# EAGLE library part HEF4538BT (library NXP_By_element14_Batch_1)
Dual precision monostable multivibrator
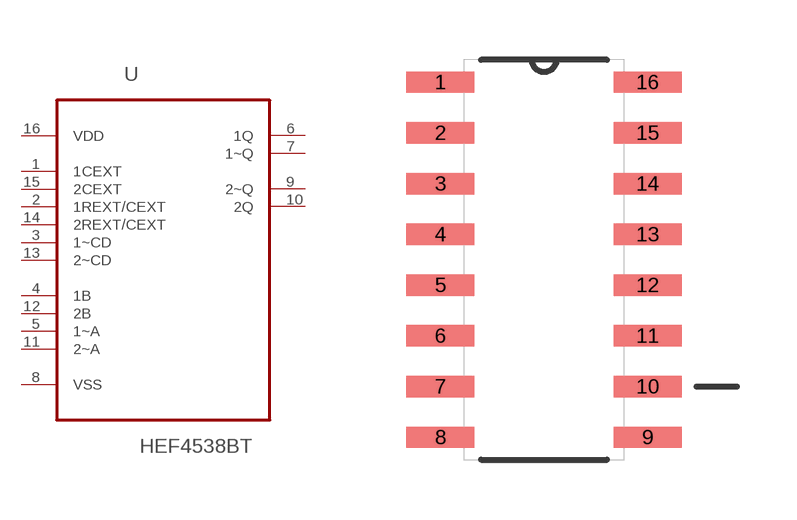
[diagram p288: symbol with the pads of SOIC127P600X175-16N; footprint SOIC127P600X175-16N]

Designator prefix U

## HEF4538BT (MPN: HEF4538BT; OC_FARNELL: 1201299; OC_NEWARK: 25M9625; P1I: o; PACKAGE: SOIC-16; SUPPLIER: NXP)  [SOIC127P600X175-16N]
1  1CEXT  pas
2  1REXT/CEXT  pas
3  1~CD  in
4  1B  in
5  1~A  in
6  1Q  out
7  1~Q  out
8  VSS  pwr
9  2~Q  out
10  2Q  out
11  2~A  in
12  2B  in
13  2~CD  in
14  2REXT/CEXT  pas
15  2CEXT  pas
16  VDD  pwr

## Footprint SOIC127P600X175-16N (pad centres in mm)
smd 1.702 x 0.533: 1 -2.591,4.445; 2 -2.591,3.175; 3 -2.591,1.905; 4 -2.591,0.635; 5 -2.591,-0.635; 6 -2.591,-1.905; 7 -2.591,-3.175; 8 -2.591,-4.445; 9 2.591,-4.445; 10 2.591,-3.175; 11 2.591,-1.905; 12 2.591,-0.635; 13 2.591,0.635; 14 2.591,1.905; 15 2.591,3.175; 16 2.591,4.445